# Altium footprint library Connectors.PcbLib: 39 footprints (part 3 of 3)
Each footprint in its own frame and in the unit in brackets; x right, y up, seen from the top. Pads: shape width x height; smd on the part's side, far side on the other; paste and mask are expansions set on the pad; w line width, h text height; cw(c..) or ccw(c..) is an arc to the next point about the centre after c.
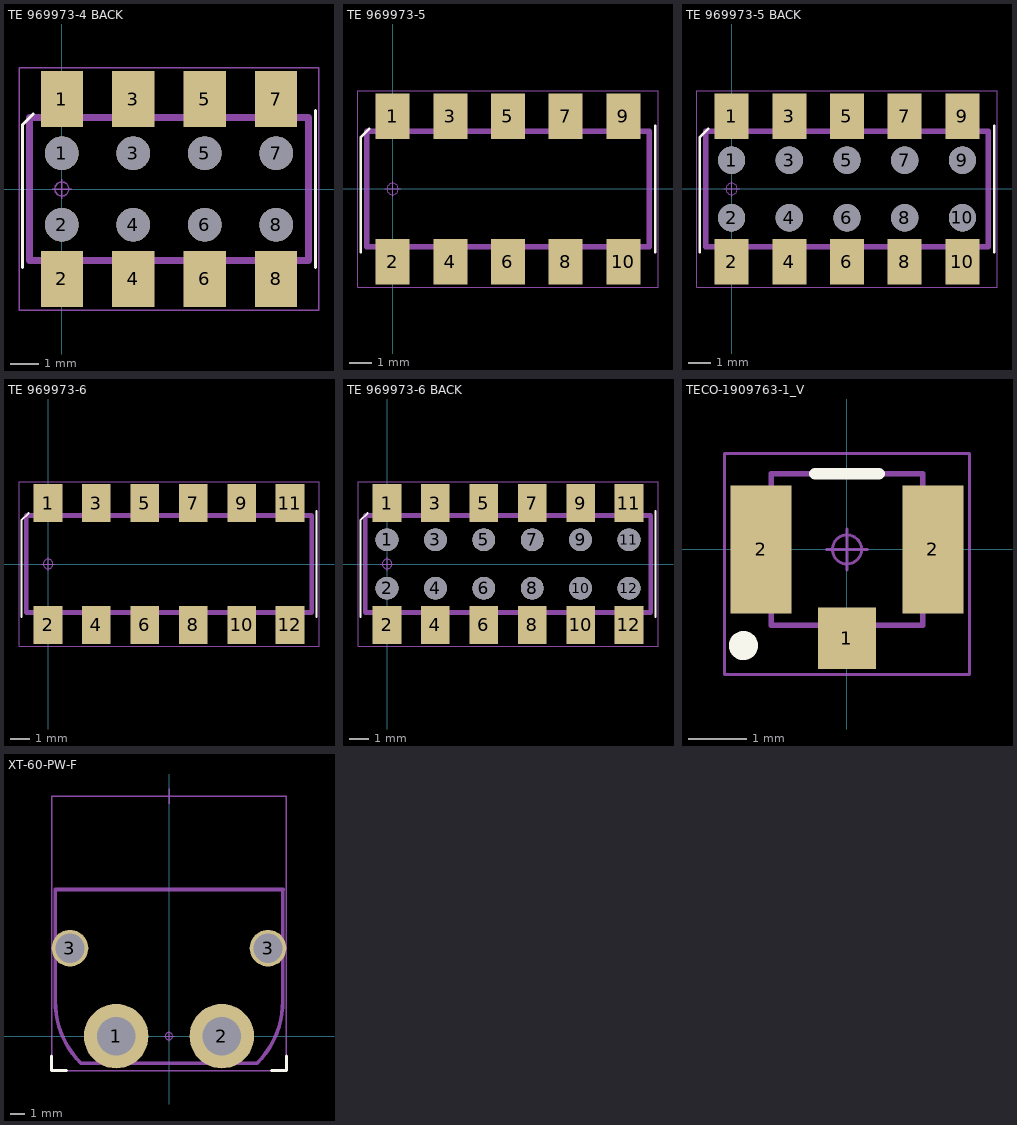
[diagram p2: the footprints below, top view; thin cyan lines are the x and y axes]

## TE 969973-4 BACK [mm] "2x4P HV100 REC DOUBLE ROW WITH HOLES"
height 6.2
pads (16):
  round 1.2 hole 1.2 unplated paste-0.1 mask-0.1: 1(0,1.27) 2(0,-1.27) 3(2.54,1.27) 4(2.54,-1.27) 5(5.08,1.27) 6(5.08,-1.27) 7(7.62,1.27) 8(7.62,-1.27)
  rect 1.5x2 smd: 1(0,3.2) 2(0,-3.2) 3(2.54,3.2) 4(2.54,-3.2) 5(5.08,3.2) 6(5.08,-3.2) 7(7.62,3.2) 8(7.62,-3.2)
Top Overlay:
  lines w0.1: -1.397,-2.794 -1.397,2.286 -1.016,2.667 ; 9.017,-2.794 9.017,2.794
Top Assembly:
  lines w0.25: -1.143,-2.54 -1.143,2.54 8.763,2.54 8.763,-2.54 -1.143,-2.54
  text ".Designator" at -0.4,-0.5 h1.5
Top Courtyard:
  circle w0.05: c0,0 r0.25
  lines w0.05: -0.35,0 0.35,0 ; 0,-0.35 0,0.35 ; -1.524,-4.318 9.144,-4.318 9.144,4.318 -1.524,4.318 -1.524,-4.318
3D body "969973-4 series.STEP": height 6.2, standoff 0, extent -1.17,-3.825 8.79,3.825

## TE 969973-5 [mm] "2x5P HV100 REC DOUBLE ROW"
height 6.2
pads (10):
  rect 1.5x2 smd: 1(0,3.2) 2(0,-3.2) 3(2.54,3.2) 4(2.54,-3.2) 5(5.08,3.2) 6(5.08,-3.2) 7(7.62,3.2) 8(7.62,-3.2) 9(10.16,3.2) 10(10.16,-3.2)
Top Overlay:
  lines w0.1: -1.397,-2.794 -1.397,2.286 -1.016,2.667 ; 11.557,-2.794 11.557,2.794
Top Assembly:
  lines w0.25: -1.143,-2.54 -1.143,2.54 11.303,2.54 11.303,-2.54 -1.143,-2.54
  text ".Designator" at 0,-0.5 h1.5
Top Courtyard:
  circle w0.05: c0,0 r0.25
  lines w0.05: -0.35,0 0.35,0 ; 0,-0.35 0,0.35 ; -1.524,-4.318 11.684,-4.318 11.684,4.318 -1.524,4.318 -1.524,-4.318
3D body "969973-5 series.STEP": height 6.2, standoff 0, extent -1.17,-3.825 11.33,3.825

## TE 969973-5 BACK [mm] "2x5P HV100 REC DOUBLE ROW WITH HOLES"
height 6.2
pads (20):
  round 1.2 hole 1.2 unplated paste-0.1 mask-0.1: 1(0,1.27) 2(0,-1.27) 3(2.54,1.27) 4(2.54,-1.27) 5(5.08,1.27) 6(5.08,-1.27) 7(7.62,1.27) 8(7.62,-1.27) 9(10.16,1.27) 10(10.16,-1.27)
  rect 1.5x2 smd: 1(0,3.2) 2(0,-3.2) 3(2.54,3.2) 4(2.54,-3.2) 5(5.08,3.2) 6(5.08,-3.2) 7(7.62,3.2) 8(7.62,-3.2) 9(10.16,3.2) 10(10.16,-3.2)
Top Overlay:
  lines w0.1: -1.397,-2.794 -1.397,2.286 -1.016,2.667 ; 11.557,-2.794 11.557,2.794
Top Assembly:
  lines w0.25: -1.143,-2.54 11.303,-2.54 11.303,2.54 -1.143,2.54 -1.143,-2.54
  text ".Designator" at 0,-0.6 h1.5
Top Courtyard:
  circle w0.05: c0,0 r0.25
  lines w0.05: -0.35,0 0.35,0 ; 0,-0.35 0,0.35 ; -1.524,-4.318 -1.524,4.318 11.684,4.318 11.684,-4.318 -1.524,-4.318
3D body "969973-5 series.STEP": height 6.2, standoff 0, extent -1.17,-3.825 11.33,3.825

## TE 969973-6 [mm] "2x6P HV100 REC DOUBLE ROW"
height 6.2
pads (12):
  rect 1.5x2 smd: 1(0,3.2) 2(0,-3.2) 3(2.54,3.2) 4(2.54,-3.2) 5(5.08,3.2) 6(5.08,-3.2) 7(7.62,3.2) 8(7.62,-3.2) 9(10.16,3.2) 10(10.16,-3.2) 11(12.7,3.2) 12(12.7,-3.2)
Top Overlay:
  lines w0.1: -1.397,-2.794 -1.397,2.286 -1.016,2.667 ; 14.097,-2.794 14.097,2.794
Top Assembly:
  lines w0.25: -1.143,-2.54 -1.143,2.54 13.843,2.54 13.843,-2.54 -1.143,-2.54
  text ".Designator" at 0,-0.4 h1.5
Top Courtyard:
  circle w0.05: c0,0 r0.25
  lines w0.05: -0.35,0 0.35,0 ; 0,-0.35 0,0.35 ; -1.524,-4.318 14.224,-4.318 14.224,4.318 -1.524,4.318 -1.524,-4.318
3D body "969973-6 series.STEP": height 6.2, standoff 0, extent -1.17,-3.825 13.87,3.825

## TE 969973-6 BACK [mm] "2x6P HV100 REC DOUBLE ROW WITH HOLES"
height 6.2
pads (24):
  round 1.2 hole 1.2 unplated paste-0.1 mask-0.1: 1(0,1.27) 2(0,-1.27) 3(2.54,1.27) 4(2.54,-1.27) 5(5.08,1.27) 6(5.08,-1.27) 7(7.62,1.27) 8(7.62,-1.27) 9(10.16,1.27) 10(10.16,-1.27) 11(12.7,1.27) 12(12.7,-1.27)
  rect 1.5x2 smd: 1(0,3.2) 2(0,-3.2) 3(2.54,3.2) 4(2.54,-3.2) 5(5.08,3.2) 6(5.08,-3.2) 7(7.62,3.2) 8(7.62,-3.2) 9(10.16,3.2) 10(10.16,-3.2) 11(12.7,3.2) 12(12.7,-3.2)
Top Overlay:
  lines w0.1: -1.397,-2.794 -1.397,2.286 -1.016,2.667 ; 14.097,-2.794 14.097,2.794
Top Assembly:
  lines w0.25: -1.143,-2.54 13.843,-2.54 13.843,2.54 -1.143,2.54 -1.143,-2.54
  text ".Designator" at 0,-0.4 h1.5
Top Courtyard:
  circle w0.05: c0,0 r0.25
  lines w0.05: -0.35,0 0.35,0 ; 0,-0.35 0,0.35 ; -1.524,-4.318 -1.524,4.318 14.224,4.318 14.224,-4.318 -1.524,-4.318
3D body "969973-6 series.STEP": height 6.2, standoff 0, extent -1.17,-3.825 13.87,3.825

## TECO-1909763-1_V [mm] "SMD, 3-Leads, Body 2.6x2.6mm, Height 1.25mm"
height 1.25
pads (3):
  rect 1x1.05 smd: 1(0,-1.525)
  rect 1.05x2.2 smd: 2(-1.475,0) 2(1.475,0)
Top Overlay:
  circle w0.25: c-1.778,-1.65 r0.125
  lines w0.2: -0.55,1.3 0.55,1.3
Top Assembly:
  lines w0.1: -1.3,-1.3 1.3,-1.3 1.3,1.3 -1.3,1.3 -1.3,-1.3
  text ".Designator" at -1.05,-0.35 h1.5
Top Courtyard:
  circle w0.05: c0,0 r0.25
  lines w0.05: -0.35,0 0.35,0 ; 0,-0.35 0,0.35 ; -2.1,-2.15 -2.1,1.65 2.1,1.65 2.1,-2.15 -2.1,-2.15
3D body "c-1909763-1-b-3d.stp": height 1.23, standoff 0, extent -1.5,-1.55 1.5,1.55

## XT-60-PW-F [mm]
height 8.4
pads (4):
  round 4.4 hole 2.6: 1(-3.6,0) 2(3.6,0)
  round 2.5 hole 2: 3(-6.75,6) 3(6.75,6)
Top Overlay:
  lines w0.2: -8,-1.35 -8,-2.35 -7,-2.35 ; 7,-2.35 8,-2.35 8,-1.35
Top Assembly:
  lines w0.25: -7.75,10 -7.75,2.375 ccw(c-1.775,2.375) -6,-1.85 3.5,-1.85 6,-1.85 ccw(c1.775,2.375) 7.75,2.375 7.75,10 ; -7.707,10 7.77,10
  text ".Designator" at -4.166,3.761 h2
Top Courtyard:
  circle w0.05: c0,0 r0.25
  lines w0.05: -0.35,0 0.35,0 ; 0,-0.35 0,0.35
  lines w0.1: 0,15.85 0,16.85 ; -8,-2.35 -8,16.35 8,16.35 8,-2.35 -8,-2.35
3D body "XT60PW-F.STEP": height 8.4, standoff -2.5, extent -7.75,-1.85 7.75,15.35